# Altium footprint library Comments.PcbLib: 24 footprints (part 1 of 2)
Each footprint in its own frame and in the unit in brackets; x right, y up, seen from the top. Pads: shape width x height; smd on the part's side, far side on the other; paste and mask are expansions set on the pad; w line width, h text height; cw(c..) or ccw(c..) is an arc to the next point about the centre after c.
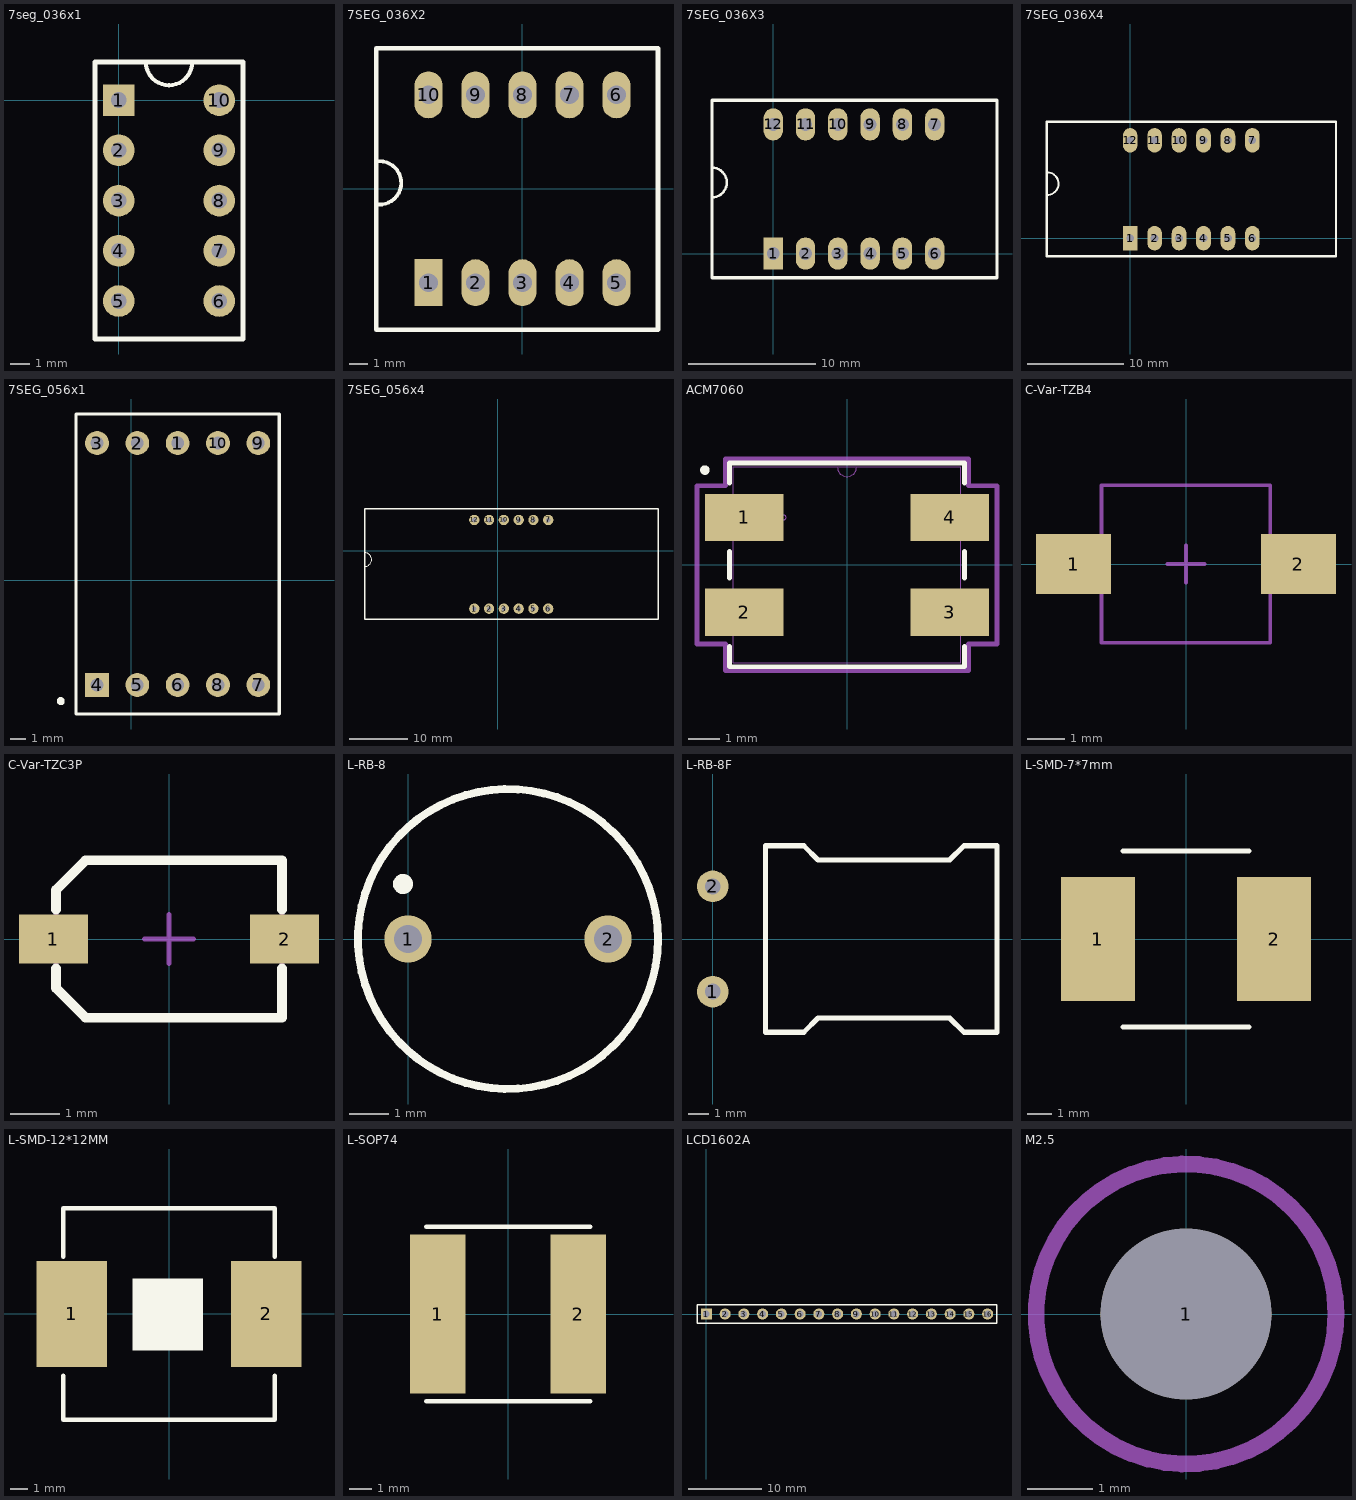
[diagram p0: the footprints below, top view; thin cyan lines are the x and y axes]

## 7seg_036x1 [mm]
pads (10):
  rect 1.6x1.6 hole 0.8: 1(0,0)
  round 1.6 hole 0.8: 2(0,-2.54) 3(0,-5.08) 4(0,-7.62) 5(0,-10.16) 6(5.08,-10.16) 7(5.08,-7.62) 8(5.08,-5.08) 9(5.08,-2.54) 10(5.08,0)
Top Overlay:
  lines w0.203: 1.371,1.928 ccw(c2.54,1.92) 3.71,1.92
  lines w0.254: -1.21,-12.08 6.29,-12.08 6.29,1.92 -1.21,1.92 -1.21,-12.08
3D body "036_1.step": height 8.5, standoff -4, extent -1.21,-12.08 6.29,1.92

## 7SEG_036X2 [mil]
pads (10):
  rect 60x100 hole 40: 1(-200,-200)
  oval 60x100 hole 40: 2(-100,-200) 3(0,-200) 4(100,-200) 5(200,-200) 6(200,200) 7(100,200) 8(0,200) 9(-100,200) 10(-200,200)
Top Overlay:
  lines w8: -306.5,-33.5 ccw(c-304.2,12.49) -304.2,58.53
  lines w10: -311.5,-300.5 -311.5,299.5 288.5,299.5 288.5,-300.5 -311.5,-300.5

## 7SEG_036X3 [mil]
pads (12):
  rect 60x100 hole 40: 1(0,0)
  oval 60x100 hole 40: 2(100,0) 3(200,0) 4(300,0) 5(400,0) 6(500,0) 7(500,400) 8(400,400) 9(300,400) 10(200,400) 11(100,400) 12(0,400)
Top Overlay:
  lines w8: -190.3,173.96 ccw(c-190,220) -190,266.04
  lines w10: -190,-75 -190,475 693,475 693,-75 -190,-75
3D body "036_3.step": height 279.53, standoff -216.54, extent -189.94,-76.58 691.95,474.6

## 7SEG_036X4 [mil]
pads (12):
  rect 60x100 hole 31.5: 1(0,0)
  oval 60x100 hole 31.5: 2(100,0) 3(200,0) 4(300,0) 5(400,0) 6(500,0) 7(500,400) 8(400,400) 9(300,400) 10(200,400) 11(100,400) 12(0,400)
Top Overlay:
  lines w8: -341.3,177.01 ccw(c-339,223) -339,269.04
  lines w10: -341,-73.59 842,-73.59 842,476 -341,476 -341,-73.59
3D body "036_4.step": height 279.53, standoff -216.54, extent -339.55,-73.59 841.55,477.59

## 7SEG_056x1 [mm]
pads (10):
  round 1.5 hole 0.8: 1(2.921,8.636) 2(0.381,8.636) 3(-2.159,8.636) 5(0.381,-6.604) 6(2.921,-6.604) 7(8.001,-6.604) 8(5.461,-6.604) 9(8.001,8.636) 10(5.461,8.636)
  rect 1.5x1.5 hole 0.8: 4(-2.159,-6.604)
Top Overlay:
  circle w0.25: c-4.445,-7.62 r0.125
  lines w0.2: -3.479,-8.434 -3.479,10.466 9.321,10.466 9.321,-8.434 -3.479,-8.434
3D body "056_1.step": height 8, standoff -6.3, extent -3.379,-8.509 9.221,10.491

## 7SEG_056x4 [mil]
pads (12):
  round 70 hole 31: 1(-159.84,-392.91) 2(-59.84,-392.91) 3(40.16,-392.91) 4(140.16,-392.91) 5(240.16,-392.91) 6(340.16,-392.91) 7(340.16,207.09) 8(240.16,207.09) 9(140.16,207.09) 10(40.16,207.09) 11(-59.84,207.09) 12(-159.84,207.09)
Top Overlay:
  lines w8: -902.3,-105.99 ccw(c-900,-60) -900,-13.96
  lines w10: -901.96,-464.56 1082.29,-464.56 1082.29,283.47 -901.96,283.47 -901.96,-464.56
3D body "056_4.step": height 314.96, standoff -244.09, extent -901.96,-464.56 1082.29,283.47

## ACM7060 [mil]
height 23.62
pads (4):
  rect 98x59 smd paste+0 mask+0: 1(-128,59.06) 2(-128,-59.06) 3(128,-59.06) 4(128,59.06)
Top Overlay:
  circle w6: c-177.17,118.11 r3
  lines w6: -146.5,-101.66 -146.5,-127 146.5,-127 146.5,-101.66 ; -146.5,-16.46 -146.5,16.46 ; -146.5,101.66 -146.5,127 146.5,127 146.5,101.66 ; 146.5,-16.46 146.5,16.46
Top Paste:
  region: 177,88.56 79,88.56 79,29.56 177,29.56
  region: 177,-29.56 79,-29.56 79,-88.56 177,-88.56
  region: -79,-29.56 -177,-29.56 -177,-88.56 -79,-88.56
  region: -79,88.56 -177,88.56 -177,29.56 -79,29.56
Top Solder:
  region: 177,88.56 79,88.56 79,29.56 177,29.56
  region: 177,-29.56 79,-29.56 79,-88.56 177,-88.56
  region: -79,-29.56 -177,-29.56 -177,-88.56 -79,-88.56
  region: -79,88.56 -177,88.56 -177,29.56 -79,29.56
Mechanical 13:
  circle w0: c-79,59.06 r3
  lines w0: -12,122 ccw(c0,122) 12,122
  lines w1: -141.5,-122 -141.5,122 141.5,122 141.5,-122 -141.5,-122
Mechanical 15:
  lines w6: -187,-98.56 -151.5,-98.56 -151.5,-132 151.5,-132 151.5,-98.56 187,-98.56 187,98.56 151.5,98.56 151.5,132 -151.5,132 -151.5,98.56 -187,98.56 -187,-98.56
3D body "User Library-SMDxfmr.STEP": height 137.8, standoff 0, extent -137.8,-118.11 137.8,118.11

## C-Var-TZB4 [mm] "muRata Ceramic Trimmer Capacitors, TZB4, 4.0(W)x4.5(L)x3.0(H)mm"
pads (2):
  rect 2x1.6 smd: 1(-3,0) 2(3,0)
Mechanical 13:
  lines w0.1: -2.25,-2.1 2.25,-2.1 2.25,2.1 -2.25,2.1 -2.25,-2.1
Mechanical 15:
  lines w0.1: -0.5,0 0.5,0 ; 0,-0.5 0,0.5
3D body "tzb4.step": height 3.2, standoff -0.05, extent -3.523,-2.1 3.523,2.1

## C-Var-TZC3P [mm] "muRata Ceramic Trimmer Capacitors, TZC3, 3.2(W)x4.5(L)x1.6(H)mm"
pads (2):
  rect 1.4x1 smd: 1(-2.35,0) 2(2.35,0)
Top Overlay:
  lines w0.2: -2.3,-0.6 -2.3,-1 -1.7,-1.6 2.3,-1.6 2.3,-0.6 ; -2.3,0.6 -2.3,1 -1.7,1.6 2.3,1.6 2.3,0.6
Mechanical 13:
  lines w0.1: -2.3,-1 -2.3,1 -1.7,1.6 2.3,1.6 2.3,-1.6 -1.7,-1.6 -2.3,-1
Mechanical 15:
  lines w0.1: -0.5,0 0.5,0 ; 0,-0.5 0,0.5
3D body "User Library-TZC3P300A110R00.STEP": height 1.6, standoff 0, extent -2.25,-1.6 2.25,1.6

## L-RB-8 [mm] "工字电感 直立"
pads (2):
  round 1.2 hole 0.7: 1(0,0) 2(5.08,0)
Top Overlay:
  circle w0.254: c-0.127,1.397 r0.127
  circle w0.2: c2.54,0 r3.81

## L-RB-8F [mil] "工字电感   侧卧电感"
height 472.44
pads (2):
  round 60 hole 30: 1(0,-100) 2(0,100)
Top Overlay:
  lines w10: 100,-177.17 100,177.17 172.83,177.17 200,150 450,150 477.17,177.17 540,177.17 540,-177.17 477.17,-177.17 450,-150 200,-150 172.83,-177.17 100,-177.17

## L-SMD-7*7mm [mm] "贴片电感7*7mm"
pads (2):
  rect 3x5 smd: 1(-3.556,0) 2(3.556,0)
Top Overlay:
  lines w0.2: -2.54,-3.556 2.54,-3.556 ; -2.54,3.556 2.54,3.556
3D body "User Library-drumCoreInductorSMT.step": height 4.5, standoff 0, extent -4.342,-4 4.343,4

## L-SMD-12*12MM [mm] "功率电感 1.2cm*1.2cm"
height 7
pads (2):
  rect 4x6 smd: 1(-5.5,0) 2(5.5,0)
Top Overlay:
  rectangle: -2.077,-2.07 1.93,2.007
  lines w0.254: -6,-3.5 -6,-6 6,-6 6,-3.5 ; -6,3.25 -6,6 6,6 6,3.25
3D body "User Library-MSS1260.STEP": height 6.1, standoff -0.05, extent -6.15,-6.15 6.15,6.15

## L-SOP74 [mm]
pads (2):
  rect 2.5x7.2 smd: 1(-3.175,0) 2(3.175,0)
Top Overlay:
  lines w0.203: -3.683,-3.937 3.717,-3.937 ; -3.683,3.937 3.717,3.937

## LCD1602A [mm] "LCD1602A液晶显示器"
pads (16):
  rect 1.5x1.5 hole 0.9: 1(0,0)
  round 1.5 hole 0.9: 2(2.54,0) 3(5.08,0) 4(7.62,0) 5(10.16,0) 6(12.7,0) 7(15.24,0) 8(17.78,0) 9(20.32,0) 10(22.86,0) 11(25.4,0) 12(27.94,0) 13(30.48,0) 14(33.02,0) 15(35.56,0) 16(38.1,0)
Top Overlay:
  lines w0.2: -1.27,-1.27 39.37,-1.27 39.37,1.27 0.635,1.27 -1.27,1.27 -1.27,-1.27
3D body "1602液晶": height 21.34, standoff -2.98, extent -8,-34.5 72.5,2

## M2.5 [mm] "螺丝孔M2.5"
pads (1):
  round 2.6 hole 2.6: 1(0,0)
Mechanical 15:
  circle w0.254: c0,0 r2.286